# Altium footprint library Components - 08.10.24 - 15.20.PcbLib: 1 footprints
Each footprint in its own frame and in the unit in brackets; x right, y up, seen from the top. Pads: shape width x height; smd on the part's side, far side on the other; paste and mask are expansions set on the pad; w line width, h text height; cw(c..) or ccw(c..) is an arc to the next point about the centre after c.
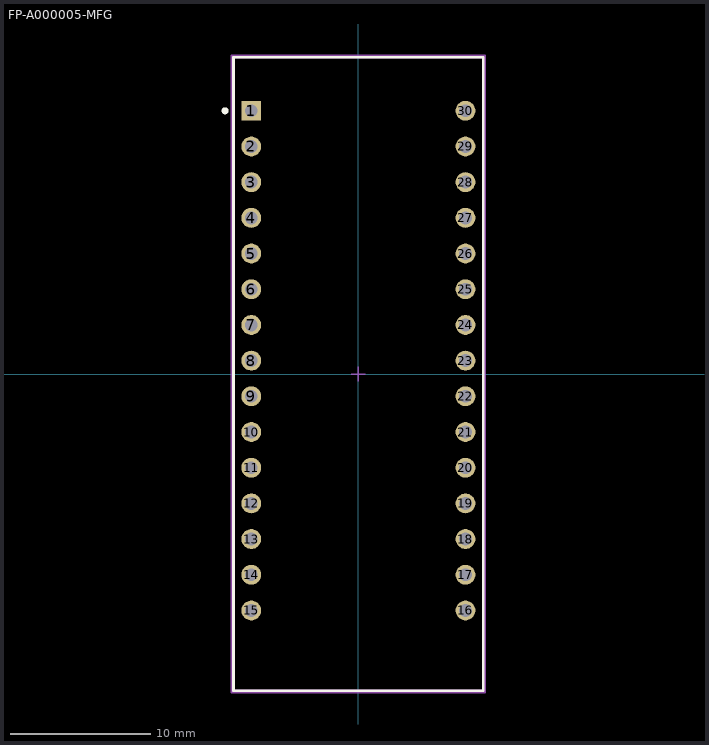
[diagram p0: the footprint, top view; thin cyan lines are the x and y axes]

## FP-A000005-MFG [mil]
pads (30):
  rect 55.67x55.67 hole 35.98 paste-39370.1 mask+0: 1(-300,737.5)
  round 55.67 hole 35.98 paste-39370.1 mask+0: 2(-300,637.5) 3(-300,537.5) 4(-300,437.5) 5(-300,337.5) 6(-300,237.5) 7(-300,137.5) 8(-300,37.5) 9(-300,-62.5) 10(-300,-162.5) 11(-300,-262.5) 12(-300,-362.5) 13(-300,-462.5) 14(-300,-562.5) 15(-300,-662.5) 16(300,-662.5) 17(300,-562.5) 18(300,-462.5) 19(300,-362.5) 20(300,-262.5) 21(300,-162.5) 22(300,-62.5) 23(300,37.5) 24(300,137.5) 25(300,237.5) 26(300,337.5) 27(300,437.5) 28(300,537.5) 29(300,637.5) 30(300,737.5)
Top Overlay:
  circle w9.84: c-373.62,737.5 r4.92
  lines w7.87: -350,-887.5 350,-887.5 350,887.5 -350,887.5 -350,-887.5
Mechanical 5:
  lines w7.87: -353.94,-891.44 353.94,-891.44 353.94,891.44 -353.94,891.44 -353.94,-891.44
  text ".Designator" at 0,-0.03 h39.37
Mechanical 13:
  lines w7.87: -350,-887.5 350,-887.5 350,887.5 -350,887.5 -350,-887.5
Mechanical 15:
  lines w7.87: -353.94,-891.44 353.94,-891.44 353.94,891.44 -353.94,891.44 -353.94,-891.44
Mechanical 16:
  lines w3.94: -19.68,0 19.68,0 ; 0,-19.68 0,19.68
3D body "UNK_Arduino_A000005_eec.STEP": height 10, standoff 0, extent -353.94,-891.44 353.94,891.44